# Altium footprint library FQDMDPCBLibrary.PcbLib: 12 footprints
Each footprint in its own frame and in the unit in brackets; x right, y up, seen from the top. Pads: shape width x height; smd on the part's side, far side on the other; paste and mask are expansions set on the pad; w line width, h text height; cw(c..) or ccw(c..) is an arc to the next point about the centre after c.
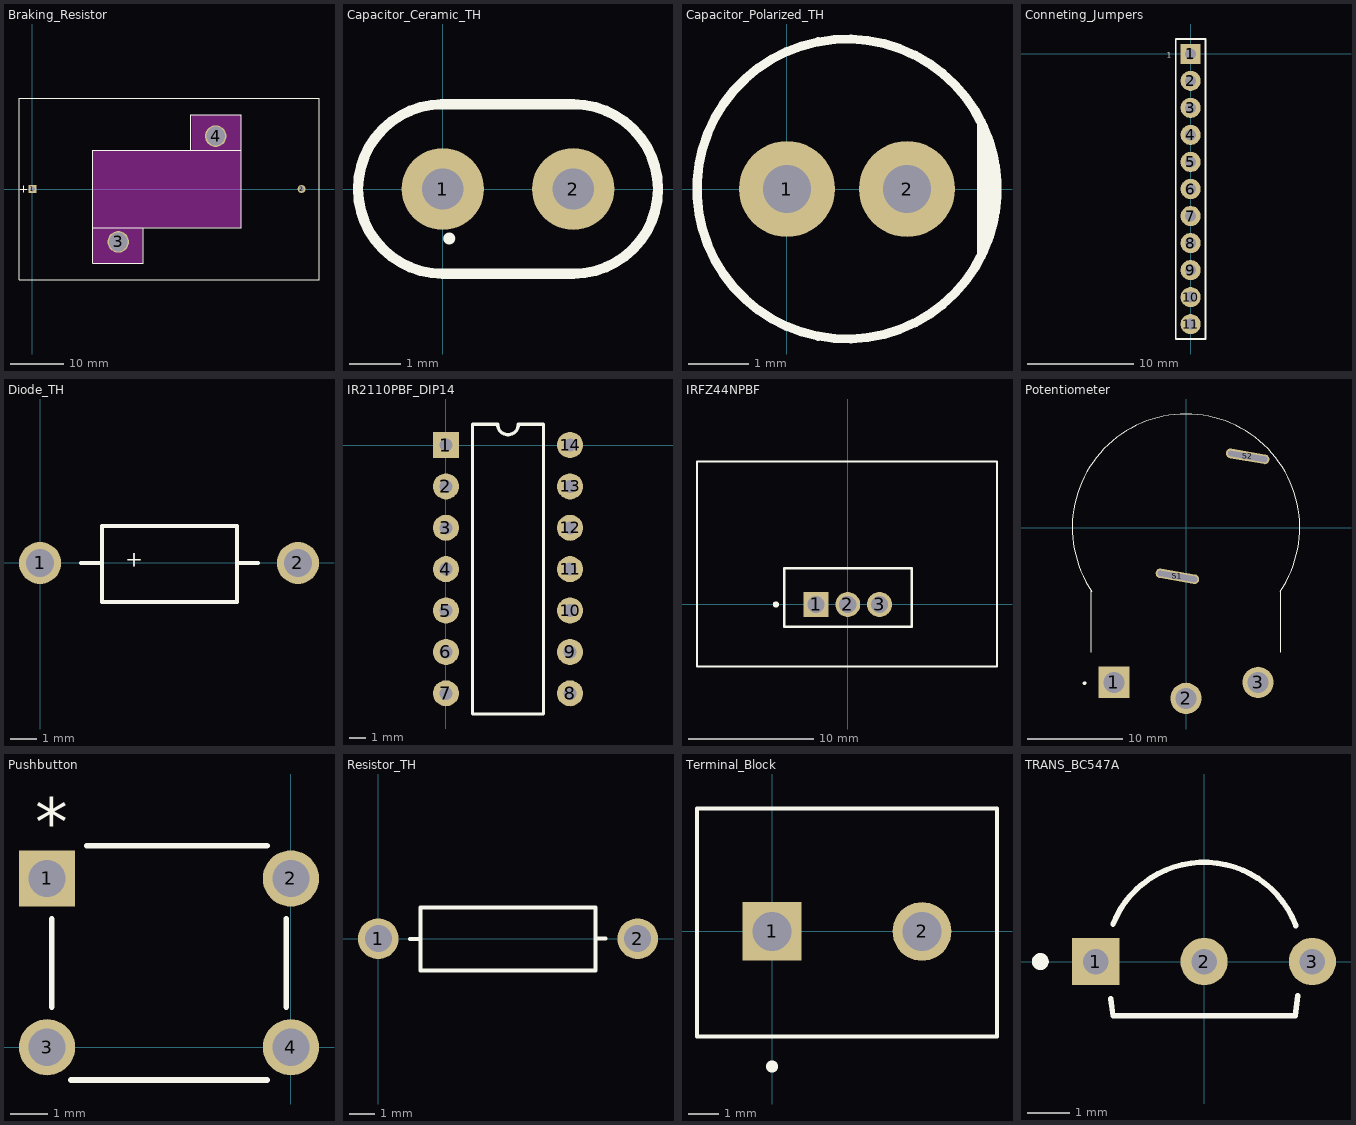
[diagram p0: the footprints below, top view; thin cyan lines are the x and y axes]

## Braking_Resistor [mil]
pads (4):
  rect 60x60 hole 40 paste-99999 mask+0: 1(0,0)
  round 60 hole 40 paste-99999 mask+0: 2(2000,0)
  round 160 hole 140 unplated: 3(638,-393) 4(1362,393)
Top Layer keep-out:
  region: 1182.5,282.5 1546.5,282.5 1546.5,547.5 1182.5,547.5
  region: 817.5,-282.5 453.5,-282.5 453.5,-547.5 817.5,-547.5
  region: 453.5,-282.5 453.5,282.5 1546.5,282.5 1546.5,-282.5
Top Overlay:
  lines w6: -90,0 -43.1,0 ; -65,-25 -65,25 ; 822.5,-287.5 822.5,-552.5 448.5,-552.5 448.5,-287.5 ; 1177.5,287.5 1177.5,552.5 1551.5,552.5 1551.5,287.5 ; 448.5,-287.5 448.5,287.5 1551.5,287.5 ; 448.5,-287.5 1551.5,-287.5 1551.5,287.5 ; -100,-675 2130,-675 2130,675 -100,675 -100,-675
3D body "User Library-KAL25.step": height 550.5, standoff 0.5, extent 22.37,-544.77 1981.82,536.77

## Capacitor_Ceramic_TH [mm]
pads (2):
  round 1.6 hole 0.8: 1(0,0) 2(2.54,0)
Top Overlay:
  lines w0.2: -0.025,1.651 2.515,1.651 ; 0,1.651 ccw(c0,0) 0,-1.651 2.54,-1.651 ccw(c2.54,0) 2.54,1.651
  text "•" at -0.112,-1.461 h1.02
3D body "C320C104K5R5TA.step": height 7.37, standoff -6.99, extent -1.27,-1.585 3.81,1.6

## Capacitor_Polarized_TH [mm]
pads (2):
  round 1.6 hole 0.8: 1(0,0) 2(2,0)
Top Overlay:
  circle w0.152: c1,0 r2.5
  region: 3.239,-1.112 3.303,-0.983 3.401,-0.711 3.467,-0.431 3.5,-0.144 3.5,0.144 3.467,0.431 3.401,0.711 3.303,0.983 3.239,1.112
  lines w0.152: 3.239,-1.112 ccw(c1,0) 3.239,1.112 3.239,-1.112
3D body "ESK226M050AC3AA.STEP": height 12.41, standoff -20.09, extent -1.484,-2.489 3.516,2.511

## Conneting_Jumpers [mm]
pads (11):
  rect 1.9x1.9 hole 1.02: 1(0,0)
  round 1.9 hole 1.02: 2(0,-2.54) 3(0,-5.08) 4(0,-7.62) 5(0,-10.16) 6(0,-12.7) 7(0,-15.24) 8(0,-17.78) 9(0,-20.32) 10(0,-22.86) 11(0,-25.4)
Top Overlay:
  lines w0.152: -1.397,-26.797 1.397,-26.797 1.397,1.397 -1.397,1.397 -1.397,-26.797
  text "1" at -2.261,-0.356 h0.51
3D body "5.step": height 5.95, standoff -2.93, extent -1.27,-26.67 1.27,-13.97
3D body "6.step": height 5.95, standoff -2.93, extent -1.27,-13.97 1.27,1.27

## Diode_TH [mm] "DIODE STANDARD 1000V 1A DO204AC"
pads (2):
  round 1.59 hole 1.06 mask+0.102: 1(0,0) 2(9.754,0)
Top Overlay:
  lines w0.152: 1.549,0 2.311,0 ; 7.48,0 8.242,0 ; 2.337,-1.473 2.337,1.397 7.442,1.397 7.442,-1.473 2.337,-1.473
  text "+" at 3.226,-0.359 h1.02
3D body "UF4007.STEP": height 2.71, standoff -21.88, extent -0.406,-1.385 10.169,1.335

## IR2110PBF_DIP14 [mm]
pads (14):
  rect 1.6x1.6 hole 0.8: 1(0,0)
  round 1.6 hole 0.8: 2(0,-2.54) 3(0,-5.08) 4(0,-7.62) 5(0,-10.16) 6(0,-12.7) 7(0,-15.24) 8(7.62,-15.24) 9(7.62,-12.7) 10(7.62,-10.16) 11(7.62,-7.62) 12(7.62,-5.08) 13(7.62,-2.54) 14(7.62,0)
Top Overlay:
  lines w0.2: 1.635,-16.51 1.635,1.27 3.175,1.27 ccw(c3.81,1.27) 4.445,1.27 5.985,1.27 5.985,-16.51 1.635,-16.51
3D body "IR2110PBF.step": height 5.33, standoff -4.06, extent -0.146,-17.273 7.766,2.033

## IRFZ44NPBF [mm]
height 20.56
pads (3):
  rect 1.99x1.99 hole 1.39 paste-2539.97 mask+0: 1(-2.54,0)
  round 1.99 hole 1.39 paste-2539.97 mask+0: 2(0,0) 3(2.54,0)
Top Overlay:
  circle w0.25: c-5.75,0 r0.125
  lines w0.152: -12.065,-4.953 11.938,-4.953 11.938,11.43 -12.065,11.43 -12.065,-4.953
  lines w0.2: -5.1,-1.8 -5.1,2.9 5.1,2.9 5.1,-1.8 -5.1,-1.8
3D body "User Library-Disipador y TOP220 v2.step": height 25.94, standoff -7.49, extent -11.75,-4.699 11.75,11.197

## Potentiometer [mm]
pads (5):
  rect 3.3x3.3 / inner round 3.3 / far side rect 3.3x3.3 hole 2.2: 1(-7.607,-16.314)
  round 3.3 hole 2.2: 2(0,-18) 3(7.607,-16.314)
  oval 4.65x1.05 hole 0.6 slot 4.2 at 170 deg rot 170: S1(-0.903,-5.121) S2(6.507,7.535)
Top Overlay:
  circle w0.2: c-10.7,-16.4 r0.1
  lines w0.127: -10,-13.124 -10,-6.633 ; -9.948,-6.71 cw(c0,0) 9.948,-6.71 ; 10,-13.124 10,-6.633
3D body "Same_Sky_PTN24B-C1015DPA.step": height 35.21, standoff -5.98, extent -12.192,-18.518 12.182,12.168

## Pushbutton [mil]
pads (4):
  rect 59x59 / inner round 60 / far side rect 59x59 hole 39 paste-99999 mask+0: 1(-255.91,177.17)
  round 59 / inner round 60 / far side round 59 hole 39 paste-99999 mask-29.5: 2(0,177.17) 3(-255.91,0) 4(0,0)
Top Overlay:
  lines w6: -250.95,42.31 -250.95,134.57 ; -230.8,-34.42 -25.1,-34.42 ; -214.26,211.58 -25.1,211.58 ; -4.95,42.31 -4.95,134.85
  text "*" at -268.41,211.67 h50
3D body "User Library-KLS7-TS6601-7.STEP": height 276.09, standoff -137.32, extent -284.53,-29 26.51,207.22

## Resistor_TH [mm] "RES 10 OHM 5% 1/2W AXIAL"
pads (2):
  round 1.59 hole 1.06 mask+0.102: 1(0,0) 2(10.16,0)
Top Overlay:
  lines w0.152: 1.245,-0.013 1.626,-0.013 ; 8.522,0 8.903,0 ; 1.651,-1.245 1.651,1.219 8.509,1.219 8.509,-1.245 1.651,-1.245
3D body "User Library-RESISTOR, 0_25 W, 0_4 IN LEAD PITCH.step": height 2.93, standoff -2.54, extent -0.305,-1.168 10.465,1.143

## Terminal_Block [mm]
pads (2):
  rect 1.95x1.95 / inner round 1.95 / far side rect 1.95x1.95 hole 1.3: 1(0,0)
  round 1.95 hole 1.3: 2(5,0)
Top Overlay:
  circle w0.2: c0,-4.5 r0.1
  lines w0.127: -2.5,-3.5 7.5,-3.5 7.5,4.1 -2.5,4.1 -2.5,-3.5
3D body "step_temp.STEP": height 10.01, standoff -4.34, extent -2.989,-3.454 7.511,4.146

## TRANS_BC547A [mm]
pads (3):
  rect 1.108x1.108 / inner round 1.108 / far side rect 1.108x1.108 hole 0.6 mask+0.102: 1(-2.54,0)
  round 1.108 hole 0.6 mask+0.102: 2(0,0) 3(2.54,0)
Top Overlay:
  circle w0.2: c-3.844,0 r0.1
  lines w0.127: -2.192,-0.874 -2.137,-1.27 2.134,-1.27 2.2,-0.805 ; -2.138,0.874 -2.07,1.032 -1.972,1.213 -1.859,1.385 -1.73,1.546 -1.587,1.694 -1.432,1.83 -1.265,1.951 -1.088,2.056 -0.903,2.146 -0.71,2.218 -0.511,2.273 -0.308,2.309 -0.103,2.328 0.103,2.328 0.308,2.309 0.511,2.273 0.71,2.218 0.903,2.146 1.088,2.056 1.265,1.951 1.432,1.83 1.587,1.694 1.73,1.546 1.859,1.385 1.972,1.213 2.07,1.032 2.152,0.842
3D body "BC547A.STEP": height 9.97, standoff -8.07, extent -2.832,-1.33 2.832,2.35